# Altium footprint library FL2D-30-103.PcbLib: 1 footprints
Each footprint in its own frame and in the unit in brackets; x right, y up, seen from the top. Pads: shape width x height; smd on the part's side, far side on the other; paste and mask are expansions set on the pad; w line width, h text height; cw(c..) or ccw(c..) is an arc to the next point about the centre after c.
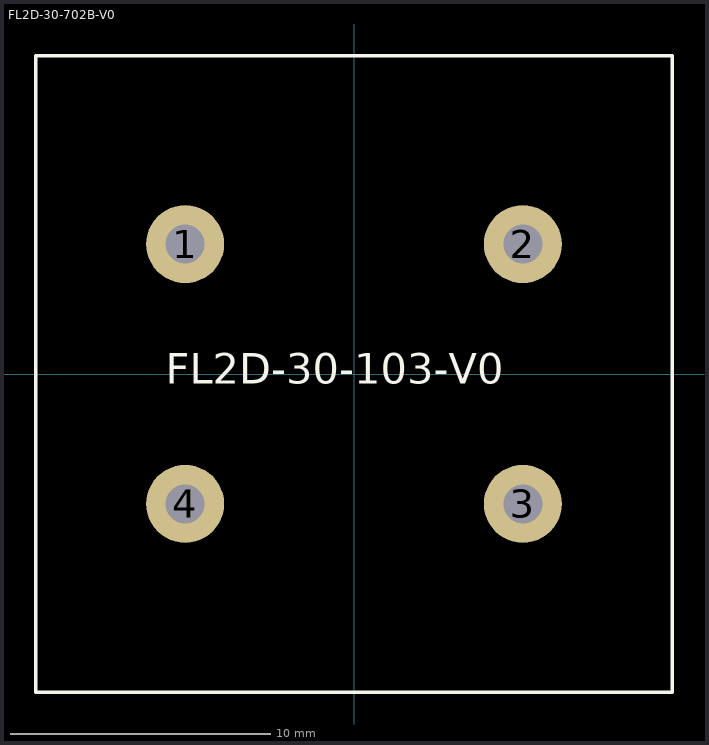
[diagram p0: the footprint, top view; thin cyan lines are the x and y axes]

## FL2D-30-702B-V0 [mm]
height 27.5
pads (4):
  round 3 hole 1.5: 1(-6.5,5) 2(6.5,5) 3(6.5,-5) 4(-6.5,-5)
Top Overlay:
  lines w0.127: -12.25,-12.25 12.25,-12.25 12.25,12.25 -12.25,12.25 -12.25,-12.25
  text "FL2D-30-103-V0" at -7.254,-0.767 h2